# Altium footprint library USB_COM_FTDI_FT232HQTRAY_QFN48_N.PcbLib: 1 footprints
Each footprint in its own frame and in the unit in brackets; x right, y up, seen from the top. Pads: shape width x height; smd on the part's side, far side on the other; paste and mask are expansions set on the pad; w line width, h text height; cw(c..) or ccw(c..) is an arc to the next point about the centre after c.
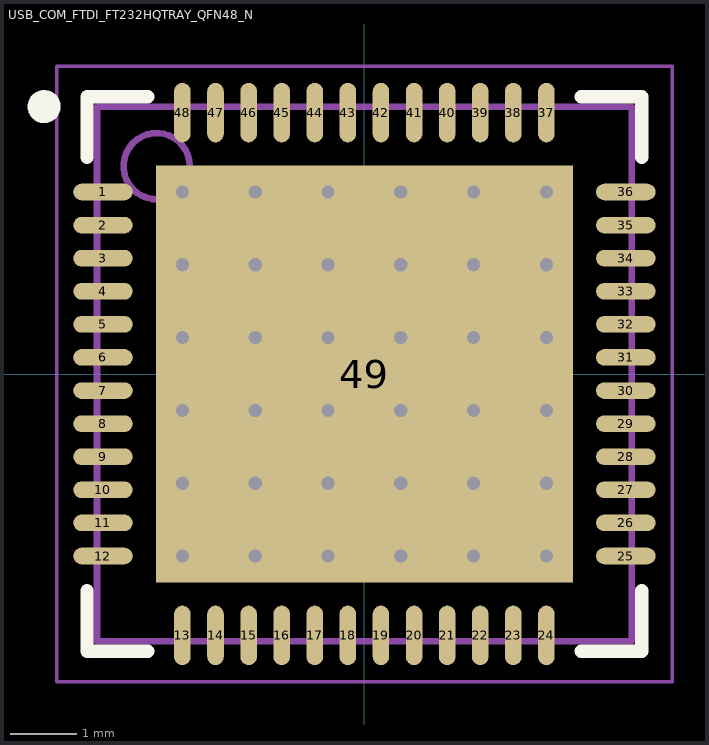
[diagram p0: the footprint, top view; thin cyan lines are the x and y axes]

## USB_COM_FTDI_FT232HQTRAY_QFN48_N [mm] "QFN, 48-Leads, Body 8x8mm, Pitch 0.5mm, Thermal Pad 6.3x6.3mm, IPC Medium Density"
height 1
pads (49):
  oval 0.9x0.25 smd: 1(-3.95,2.75) 2(-3.95,2.25) 3(-3.95,1.75) 4(-3.95,1.25) 5(-3.95,0.75) 6(-3.95,0.25) 7(-3.95,-0.25) 8(-3.95,-0.75) 9(-3.95,-1.25) 10(-3.95,-1.75) 11(-3.95,-2.25) 12(-3.95,-2.75) 25(3.95,-2.75) 26(3.95,-2.25) 27(3.95,-1.75) 28(3.95,-1.25) 29(3.95,-0.75) 30(3.95,-0.25) 31(3.95,0.25) 32(3.95,0.75) 33(3.95,1.25) 34(3.95,1.75) 35(3.95,2.25) 36(3.95,2.75)
  oval 0.25x0.9 smd: 13(-2.75,-3.95) 14(-2.25,-3.95) 15(-1.75,-3.95) 16(-1.25,-3.95) 17(-0.75,-3.95) 18(-0.25,-3.95) 19(0.25,-3.95) 20(0.75,-3.95) 21(1.25,-3.95) 22(1.75,-3.95) 23(2.25,-3.95) 24(2.75,-3.95) 37(2.75,3.95) 38(2.25,3.95) 39(1.75,3.95) 40(1.25,3.95) 41(0.75,3.95) 42(0.25,3.95) 43(-0.25,3.95) 44(-0.75,3.95) 45(-1.25,3.95) 46(-1.75,3.95) 47(-2.25,3.95) 48(-2.75,3.95)
  rect 6.3x6.3 smd: 49(0,0)
via 2.75,-2.75 diameter 0.5 hole 0.2
via 1.65,-2.75 diameter 0.5 hole 0.2
via 0.55,-2.75 diameter 0.5 hole 0.2
via -0.55,-2.75 diameter 0.5 hole 0.2
via -1.65,-2.75 diameter 0.5 hole 0.2
via -2.75,-2.75 diameter 0.5 hole 0.2
via 2.75,-1.65 diameter 0.5 hole 0.2
via 1.65,-1.65 diameter 0.5 hole 0.2
via 0.55,-1.65 diameter 0.5 hole 0.2
via -0.55,-1.65 diameter 0.5 hole 0.2
via -1.65,-1.65 diameter 0.5 hole 0.2
via -2.75,-1.65 diameter 0.5 hole 0.2
via 2.75,-0.55 diameter 0.5 hole 0.2
via 1.65,-0.55 diameter 0.5 hole 0.2
via 0.55,-0.55 diameter 0.5 hole 0.2
via -0.55,-0.55 diameter 0.5 hole 0.2
via -1.65,-0.55 diameter 0.5 hole 0.2
via -2.75,-0.55 diameter 0.5 hole 0.2
via 2.75,0.55 diameter 0.5 hole 0.2
via 1.65,0.55 diameter 0.5 hole 0.2
via 0.55,0.55 diameter 0.5 hole 0.2
via -0.55,0.55 diameter 0.5 hole 0.2
via -1.65,0.55 diameter 0.5 hole 0.2
via -2.75,0.55 diameter 0.5 hole 0.2
via 2.75,1.65 diameter 0.5 hole 0.2
via 1.65,1.65 diameter 0.5 hole 0.2
via 0.55,1.65 diameter 0.5 hole 0.2
via -0.55,1.65 diameter 0.5 hole 0.2
via -1.65,1.65 diameter 0.5 hole 0.2
via -2.75,1.65 diameter 0.5 hole 0.2
via 2.75,2.75 diameter 0.5 hole 0.2
via 1.65,2.75 diameter 0.5 hole 0.2
via 0.55,2.75 diameter 0.5 hole 0.2
via -0.55,2.75 diameter 0.5 hole 0.2
via -1.65,2.75 diameter 0.5 hole 0.2
via -2.75,2.75 diameter 0.5 hole 0.2
Top Overlay:
  circle w0.25: c-4.84,4.04 r0.125
  lines w0.2: -4.19,-3.275 -4.19,-4.19 -3.275,-4.19 ; -4.19,3.275 -4.19,4.19 -3.275,4.19 ; 3.275,-4.19 4.19,-4.19 4.19,-3.275 ; 3.275,4.19 4.19,4.19 4.19,3.275
Mechanical 13:
  circle w0.1: c-3.14,3.14 r0.5
  lines w0.1: -4.04,-4.04 4.04,-4.04 4.04,4.04 -4.04,4.04 -4.04,-4.04
Mechanical 15:
  lines w0.05: -4.65,-4.65 4.65,-4.65 4.65,4.65 -4.65,4.65 -4.65,-4.65
  lines w0.1: -0.5,0 0.5,0 ; 0,-0.5 0,0.5
3D body: height 1, standoff 0, extent -4.04,-4.04 4.04,4.04